# EAGLE library part CD74HC595 (library PP_DigitalIC)
Manufacturer Part #: CD74HC595 Manufacturer: Texas Instruments Description: Counter Shift Registers 8-Bit Shift Register
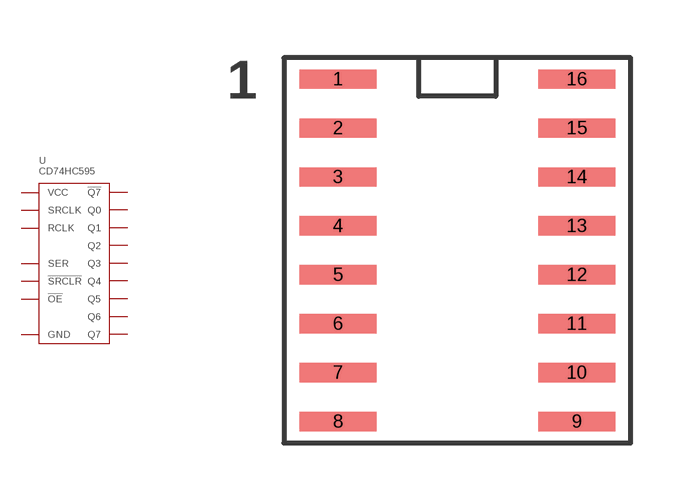
[diagram p6: symbol with the pads of CD74HC595_SOIC-16; footprint CD74HC595_SOIC-16]

Designator prefix U

## CD74HC595M96  [CD74HC595_SOIC-16]
1  Q1
2  Q2
3  Q3
4  Q4
5  Q5
6  Q6
7  Q7
8  GND
9  Q7S
10  MR
11  SHCP
12  STCP
13  OE
14  DS
15  Q0
16  VCC

## Footprint CD74HC595_SOIC-16 (pad centres in mm)
smd 2 x 0.5: 1 -3.1,4.445; 2 -3.1,3.175; 3 -3.1,1.905; 4 -3.1,0.635; 5 -3.1,-0.635; 6 -3.1,-1.905; 7 -3.1,-3.175; 8 -3.1,-4.445; 9 3.1,-4.445; 10 3.1,-3.175; 11 3.1,-1.905; 12 3.1,-0.635; 13 3.1,0.635; 14 3.1,1.905; 15 3.1,3.175; 16 3.1,4.445